# Altium schematic symbol library FR107G.SchLib: 1 symbol
Pins are listed as number, name and electrical type; pins without a type are passive.

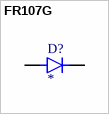
[diagram p0: symbol FR107G]

## FR107G
designator D?
MF: {'manufacturer': u'Taiwan Semiconductor'}; MP: FR107G; Package: None; Price: None; Value: *; Availability: Unavailable
footprint DIOAD1036W78L470D235
pins: A, C K